# EAGLE library part 613006143121 (library Board_to_Board_Connectors_rev15d)
WR-PHD 2.54mm Angled Socket Header, 6 Pins =>Code : Con_BTB_SHD_2.54_1_THT_613006143121 <http://katalog.we-online.de/media/images/eican/Con_BTB_SHD_2.54_1_THT_6130xx143121_pf2.jpg> Details see: http://katalog.we-online.de/en/em/613_0xx_143_121 Created 2014-05-29, Karrer Zheng 2014 (C) Würth Elektronik
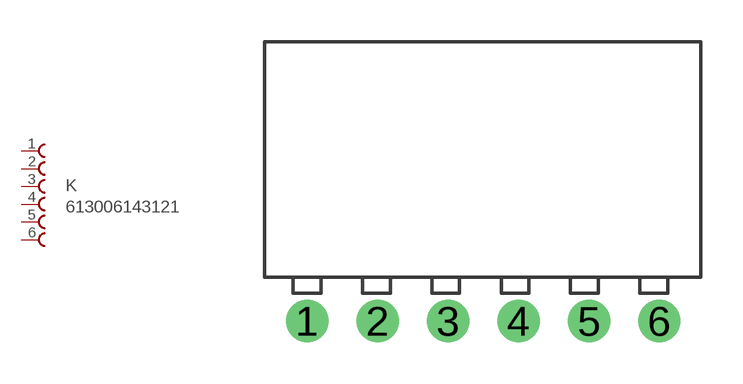
[diagram p129: symbol with the pads of 613006143121; footprint 613006143121]

Designator prefix K

## 613006143121  [613006143121]
1  1  pas
2  2  pas
3  3  pas
4  4  pas
5  5  pas
6  6  pas

## Footprint 613006143121 (pad centres in mm)
WR-PHD 2.54mm Angled Socket Header, 6 Pins
drill 1.02: 1 0,0; 2 2.54,0; 3 5.08,0; 4 7.62,0; 5 10.16,0; 6 12.7,0